# Altium schematic symbol library LEMO_EEG.2B.319.Schlib: 1 symbol
Pins are listed as number, name and electrical type; pins without a type are passive.

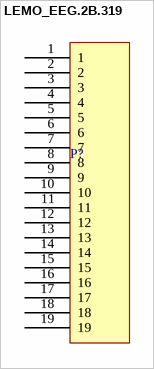
[diagram p0: symbol LEMO_EEG.2B.319]

## LEMO_EEG.2B.319
designator P?
19 pin Female LEMO Connector.
pins: 1, 2, 3, 4, 5, 6, 7, 8, 9, 10, 11, 12, 13, 14, 15, 16, 17, 18, 19